# EAGLE library part MAX1811 (library openplayer)
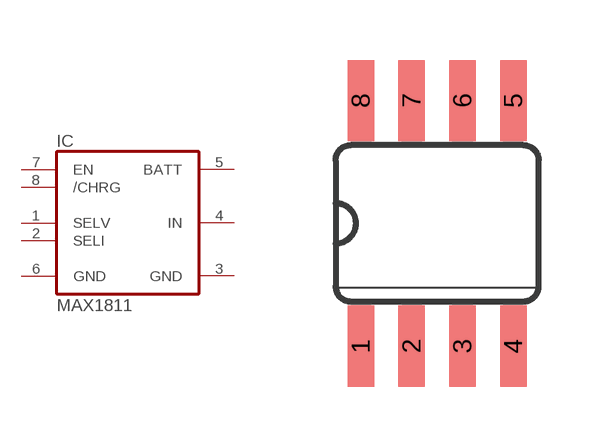
[diagram p3: symbol with the pads of SO08; footprint SO08]

Designator prefix IC

## MAX1811  [SO08]
1  SELV  in
2  SELI  in
3  GND  pwr
4  IN  pwr
5  BATT  out
6  GND  pwr
7  EN  in
8  /CHRG  out

## Footprint SO08 (pad centres in mm)
Small Outline Package
smd 0.66 x 2.032: 1 -1.905,-3.073; 2 -0.635,-3.073; 3 0.635,-3.073; 4 1.905,-3.073; 5 1.905,3.073; 6 0.635,3.073; 7 -0.635,3.073; 8 -1.905,3.073